# Altium footprint library Inductor_SMD.PcbLib: 587 footprints (part 32 of 37)
Each footprint in its own frame and in the unit in brackets; x right, y up, seen from the top. Pads: shape width x height; smd on the part's side, far side on the other; paste and mask are expansions set on the pad; w line width, h text height; cw(c..) or ccw(c..) is an arc to the next point about the centre after c.
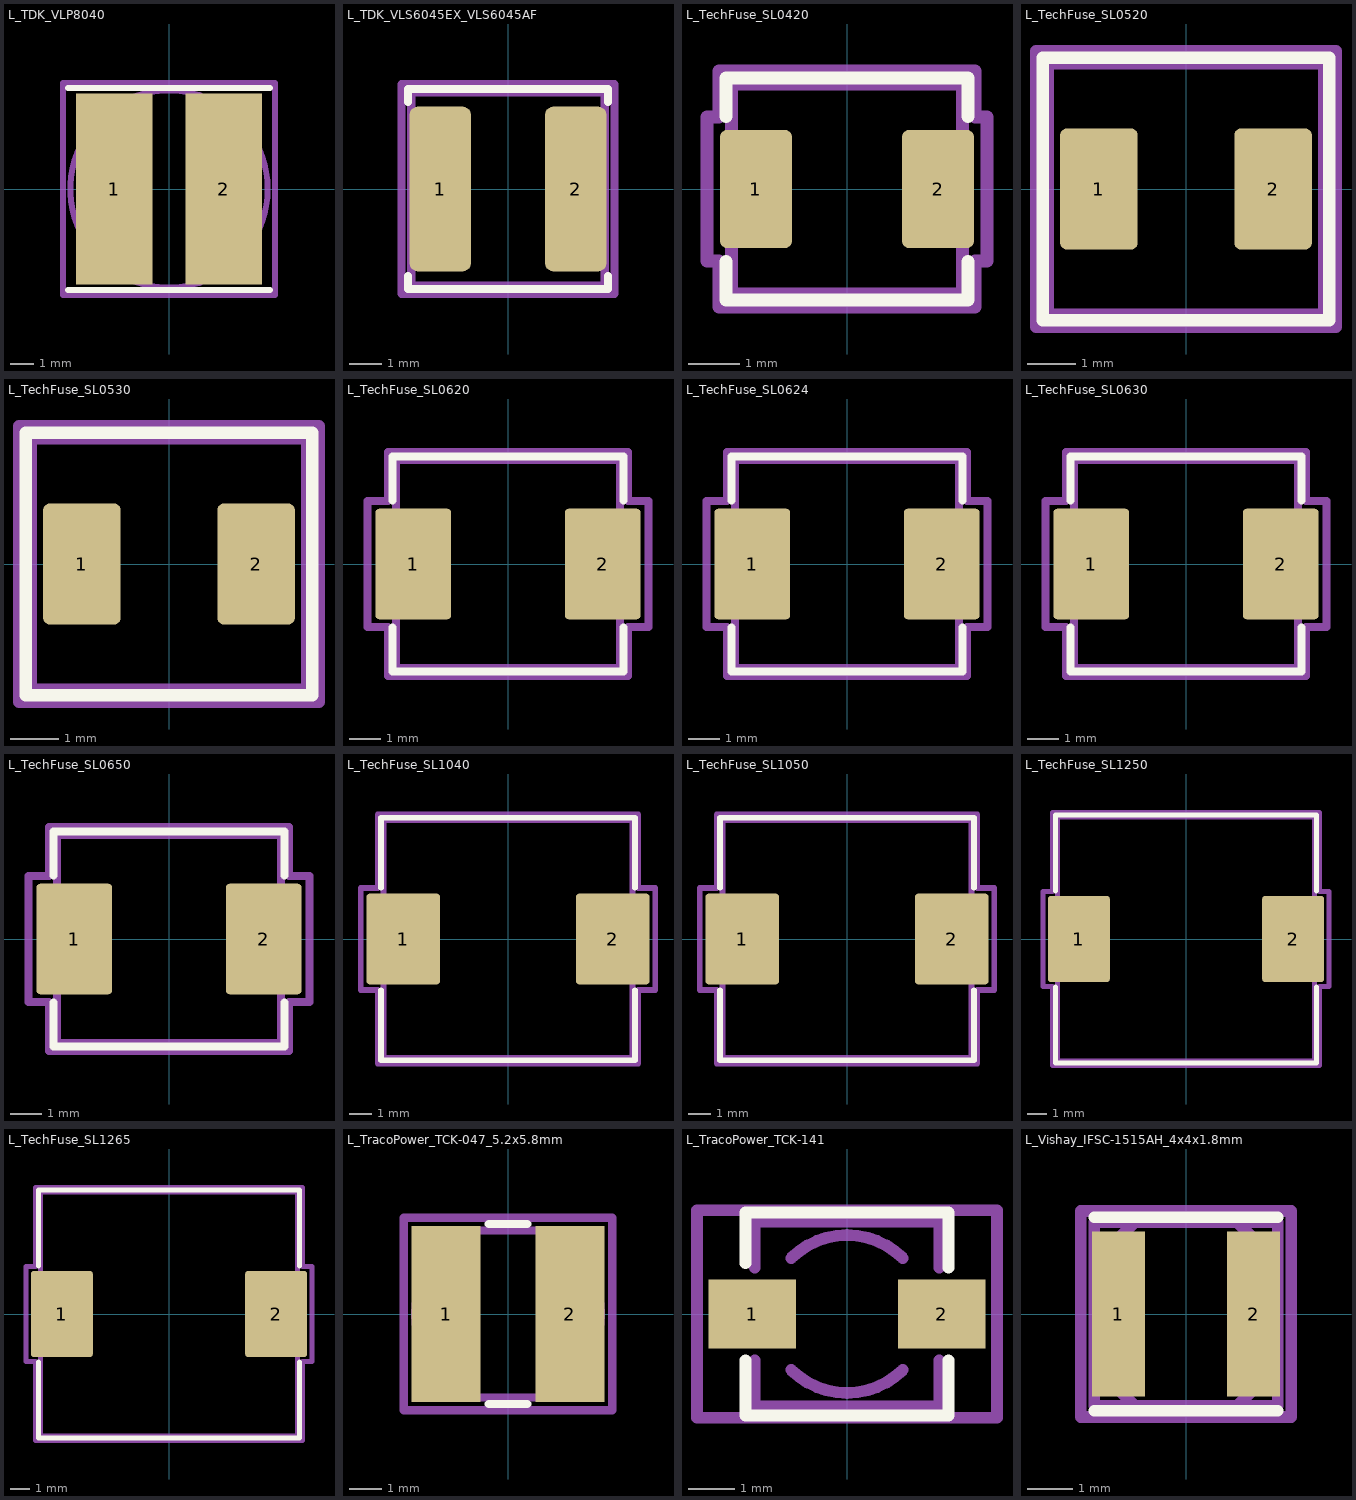
[diagram p31: the footprints below, top view; thin cyan lines are the x and y axes]

## L_TDK_VLP8040 [mm] "L_TDK_VLP8040"
pads (2):
  rect 3.3x8.2 smd: 1(-2.35,0) 2(2.35,0)
F.SilkS:
  lines w0.254: -4.35,-4.35 4.35,-4.35 ; -4.35,4.35 4.35,4.35
Top Assembly:
  circle w0.254: c0,0 r4.243
  lines w0.254: -3.5,-2.4 -3.5,-3.5 -2.4,-3.5 ; -3.5,2.4 -3.5,3.5 -2.4,3.5 ; 2.4,-3.5 3.5,-3.5 3.5,-2.4 ; 2.4,3.5 3.5,3.5 3.5,2.4
  text "'.Designator'" at -4.047,-0.84 h1
Top Courtyard:
  lines w0.254: -4.55,-4.55 4.55,-4.55 4.55,4.55 -4.55,4.55 -4.55,-4.55
Top Designator:
  text ".Designator" at -7.618,-0.508 h1.52

## L_TDK_VLS6045EX_VLS6045AF [mm] "L_TDK_VLS6045EX_VLS6045AF"
pads (2):
  rrect25% 1.9x5.1 smd: 1(-2.1,0) 2(2.1,0)
F.SilkS:
  lines w0.254: -3.1,-2.7 -3.1,-3.1 3.1,-3.1 3.1,-2.7 ; -3.1,2.7 -3.1,3.1 3.1,3.1 3.1,2.7
Top Assembly:
  lines w0.254: -3,-3 3,-3 3,3 -3,3 -3,-3
  text "'.Designator'" at -4.047,-0.84 h1
Top Courtyard:
  lines w0.254: -3.3,-3.25 3.3,-3.25 3.3,3.25 -3.3,3.25 -3.3,-3.25
Top Designator:
  text ".Designator" at -7.768,-0.508 h1.52

## L_TechFuse_SL0420 [mm] "L_TechFuse_SL0420"
pads (2):
  rrect18% 1.4x2.3 smd: 1(-1.775,0) 2(1.775,0)
F.SilkS:
  lines w0.254: -2.36,-1.41 -2.36,-2.16 2.36,-2.16 2.36,-1.41 ; -2.36,1.41 -2.36,2.16 2.36,2.16 2.36,1.41
Top Assembly:
  lines w0.254: -2.25,-2.05 -2.25,2.05 2.25,2.05 2.25,-2.05 -2.25,-2.05
  text "'.Designator'" at -4.047,-0.84 h1
Top Courtyard:
  lines w0.254: -2.73,-1.4 -2.73,1.4 -2.5,1.4 -2.5,2.3 2.5,2.3 2.5,1.4 2.73,1.4 2.73,-1.4 2.5,-1.4 2.5,-2.3 -2.5,-2.3 -2.5,-1.4 -2.73,-1.4
Top Designator:
  text ".Designator" at -7.768,-0.508 h1.52

## L_TechFuse_SL0520 [mm] "L_TechFuse_SL0520"
pads (2):
  rrect16% 1.6x2.5 smd: 1(-1.8,0) 2(1.8,0)
F.SilkS:
  lines w0.254: -2.96,-2.71 -2.96,2.71 2.96,2.71 2.96,-2.71 -2.96,-2.71
Top Assembly:
  lines w0.254: -2.85,-2.6 -2.85,2.6 2.85,2.6 2.85,-2.6 -2.85,-2.6
  text "'.Designator'" at -4.047,-0.84 h1
Top Courtyard:
  lines w0.254: -3.1,-2.85 -3.1,2.85 3.1,2.85 3.1,-2.85 -3.1,-2.85
Top Designator:
  text ".Designator" at -7.768,-0.508 h1.52

## L_TechFuse_SL0530 [mm] "L_TechFuse_SL0530"
pads (2):
  rrect16% 1.6x2.5 smd: 1(-1.8,0) 2(1.8,0)
F.SilkS:
  lines w0.254: -2.96,-2.71 2.96,-2.71 2.96,2.71 -2.96,2.71 -2.96,-2.71
Top Assembly:
  lines w0.254: -2.85,-2.6 2.85,-2.6 2.85,2.6 -2.85,2.6 -2.85,-2.6
  text "'.Designator'" at -4.047,-0.84 h1
Top Courtyard:
  lines w0.254: -3.1,-2.85 3.1,-2.85 3.1,2.85 -3.1,2.85 -3.1,-2.85
Top Designator:
  text ".Designator" at -7.768,-0.508 h1.52

## L_TechFuse_SL0620 [mm] "L_TechFuse_SL0620"
pads (2):
  rrect10% 2.4x3.5 smd: 1(-3,0) 2(3,0)
F.SilkS:
  lines w0.254: -3.66,-2.01 -3.66,-3.41 3.66,-3.41 3.66,-2.01 ; -3.66,2.01 -3.66,3.41 3.66,3.41 3.66,2.01
Top Assembly:
  lines w0.254: -3.55,-3.3 3.55,-3.3 3.55,3.3 -3.55,3.3 -3.55,-3.3
  text "'.Designator'" at -4.047,-0.84 h1
Top Courtyard:
  lines w0.254: -4.45,-2 -3.8,-2 -3.8,-3.55 3.8,-3.55 3.8,-2 4.45,-2 4.45,2 3.8,2 3.8,3.55 -3.8,3.55 -3.8,2 -4.45,2 -4.45,-2
Top Designator:
  text ".Designator" at -7.618,-0.508 h1.52

## L_TechFuse_SL0624 [mm] "L_TechFuse_SL0624"
pads (2):
  rrect10% 2.4x3.5 smd: 1(-3,0) 2(3,0)
F.SilkS:
  lines w0.254: -3.66,-2.01 -3.66,-3.41 3.66,-3.41 3.66,-2.01 ; -3.66,2.01 -3.66,3.41 3.66,3.41 3.66,2.01
Top Assembly:
  lines w0.254: -3.55,-3.3 -3.55,3.3 3.55,3.3 3.55,-3.3 -3.55,-3.3
  text "'.Designator'" at -4.047,-0.84 h1
Top Courtyard:
  lines w0.254: -4.45,-2 -4.45,2 -3.8,2 -3.8,3.55 3.8,3.55 3.8,2 4.45,2 4.45,-2 3.8,-2 3.8,-3.55 -3.8,-3.55 -3.8,-2 -4.45,-2
Top Designator:
  text ".Designator" at -7.618,-0.508 h1.52

## L_TechFuse_SL0630 [mm] "L_TechFuse_SL0630"
pads (2):
  rrect10% 2.4x3.5 smd: 1(-3,0) 2(3,0)
F.SilkS:
  lines w0.254: -3.66,-2.01 -3.66,-3.41 3.66,-3.41 3.66,-2.01 ; -3.66,2.01 -3.66,3.41 3.66,3.41 3.66,2.01
Top Assembly:
  lines w0.254: -3.55,-3.3 3.55,-3.3 3.55,3.3 -3.55,3.3 -3.55,-3.3
  text "'.Designator'" at -4.047,-0.84 h1
Top Courtyard:
  lines w0.254: -4.45,-2 -3.8,-2 -3.8,-3.55 3.8,-3.55 3.8,-2 4.45,-2 4.45,2 3.8,2 3.8,3.55 -3.8,3.55 -3.8,2 -4.45,2 -4.45,-2
Top Designator:
  text ".Designator" at -7.618,-0.508 h1.52

## L_TechFuse_SL0650 [mm] "L_TechFuse_SL0650"
pads (2):
  rrect10% 2.4x3.5 smd: 1(-3,0) 2(3,0)
F.SilkS:
  lines w0.254: -3.66,-2.01 -3.66,-3.41 3.66,-3.41 3.66,-2.01 ; -3.66,2.01 -3.66,3.41 3.66,3.41 3.66,2.01
Top Assembly:
  lines w0.254: -3.55,-3.3 -3.55,3.3 3.55,3.3 3.55,-3.3 -3.55,-3.3
  text "'.Designator'" at -4.047,-0.84 h1
Top Courtyard:
  lines w0.254: -4.45,-2 -4.45,2 -3.8,2 -3.8,3.55 3.8,3.55 3.8,2 4.45,2 4.45,-2 3.8,-2 3.8,-3.55 -3.8,-3.55 -3.8,-2 -4.45,-2
Top Designator:
  text ".Designator" at -7.618,-0.508 h1.52

## L_TechFuse_SL1040 [mm] "L_TechFuse_SL1040"
pads (2):
  rrect8% 3.25x4 smd: 1(-4.625,0) 2(4.625,0)
F.SilkS:
  lines w0.254: -5.61,-2.26 -5.61,-5.36 5.61,-5.36 5.61,-2.26 ; -5.61,2.26 -5.61,5.36 5.61,5.36 5.61,2.26
Top Assembly:
  lines w0.254: -5.5,-5.25 -5.5,5.25 5.5,5.25 5.5,-5.25 -5.5,-5.25
  text "'.Designator'" at -4.047,-0.84 h1
Top Courtyard:
  lines w0.254: -6.5,-2.25 -6.5,2.25 -5.75,2.25 -5.75,5.5 5.75,5.5 5.75,2.25 6.5,2.25 6.5,-2.25 5.75,-2.25 5.75,-5.5 -5.75,-5.5 -5.75,-2.25 -6.5,-2.25
Top Designator:
  text ".Designator" at -7.618,-0.508 h1.52

## L_TechFuse_SL1050 [mm] "L_TechFuse_SL1050"
pads (2):
  rrect8% 3.25x4 smd: 1(-4.625,0) 2(4.625,0)
F.SilkS:
  lines w0.254: -5.61,-2.26 -5.61,-5.36 5.61,-5.36 5.61,-2.26 ; -5.61,2.26 -5.61,5.36 5.61,5.36 5.61,2.26
Top Assembly:
  lines w0.254: -5.5,-5.25 -5.5,5.25 5.5,5.25 5.5,-5.25 -5.5,-5.25
  text "'.Designator'" at -4.047,-0.84 h1
Top Courtyard:
  lines w0.254: -6.5,-2.25 -6.5,2.25 -5.75,2.25 -5.75,5.5 5.75,5.5 5.75,2.25 6.5,2.25 6.5,-2.25 5.75,-2.25 5.75,-5.5 -5.75,-5.5 -5.75,-2.25 -6.5,-2.25
Top Designator:
  text ".Designator" at -7.618,-0.508 h1.52

## L_TechFuse_SL1250 [mm] "L_TechFuse_SL1250"
pads (2):
  rrect8% 3.25x4.5 smd: 1(-5.625,0) 2(5.625,0)
F.SilkS:
  lines w0.254: -6.86,-2.51 -6.86,-6.51 6.86,-6.51 6.86,-2.51 ; -6.86,2.51 -6.86,6.51 6.86,6.51 6.86,2.51
Top Assembly:
  lines w0.254: -6.75,-6.4 -6.75,6.4 6.75,6.4 6.75,-6.4 -6.75,-6.4
  text "'.Designator'" at -4.047,-0.84 h1
Top Courtyard:
  lines w0.254: -7.5,-2.5 -7.5,2.5 -7,2.5 -7,6.65 7,6.65 7,2.5 7.5,2.5 7.5,-2.5 7,-2.5 7,-6.65 -7,-6.65 -7,-2.5 -7.5,-2.5
Top Designator:
  text ".Designator" at -7.618,-0.508 h1.52

## L_TechFuse_SL1265 [mm] "L_TechFuse_SL1265"
pads (2):
  rrect8% 3.25x4.5 smd: 1(-5.625,0) 2(5.625,0)
F.SilkS:
  lines w0.254: -6.86,-2.51 -6.86,-6.51 6.86,-6.51 6.86,-2.51 ; -6.86,2.51 -6.86,6.51 6.86,6.51 6.86,2.51
Top Assembly:
  lines w0.254: -6.75,-6.4 -6.75,6.4 6.75,6.4 6.75,-6.4 -6.75,-6.4
  text "'.Designator'" at -4.047,-0.84 h1
Top Courtyard:
  lines w0.254: -7.5,-2.5 -7.5,2.5 -7,2.5 -7,6.65 7,6.65 7,2.5 7.5,2.5 7.5,-2.5 7,-2.5 7,-6.65 -7,-6.65 -7,-2.5 -7.5,-2.5
Top Designator:
  text ".Designator" at -7.618,-0.508 h1.52

## L_TracoPower_TCK-047_5.2x5.8mm [mm] "L_TracoPower_TCK-047_5.2x5.8mm"
pads (2):
  rect 2.15x5.5 smd: 1(-1.925,0) 2(1.925,0)
F.SilkS:
  lines w0.254: -0.6,-2.8 0.6,-2.8 ; -0.6,2.8 0.6,2.8
Top Assembly:
  lines w0.254: -1.285,-2.6 cw(c0,0) -1.285,2.6 1.285,2.6 cw(c0,0) 1.285,-2.6 -1.285,-2.6
  text "'.Designator'" at -4.047,-0.84 h1
Top Courtyard:
  lines w0.254: -3.25,-3 -3.25,3 3.25,3 3.25,-3 -3.25,-3
Top Designator:
  text ".Designator" at -7.768,-0.508 h1.52

## L_TracoPower_TCK-141 [mm] "L_TracoPower_TCK-141"
pads (2):
  rect 1.9x1.5 smd: 1(-2.05,0) 2(2.05,0)
F.SilkS:
  lines w0.254: -2.2,-1 -2.2,-2.2 2.2,-2.2 2.2,-1 ; -2.2,1.1 -2.2,2.2 2.2,2.2 2.2,1
Top Assembly:
  lines w0.254: -2,-2 2,-2 2,-1 ; -2,-1.95 -2,-1 ; -2,1 -2,2 2,2 ; -1.21,-1.21 ccw(c0,0) 1.21,-1.21 ; -1.21,1.21 cw(c0,0) 1.21,1.21 ; 2,1 2,1.95
  text "'.Designator'" at -1.634,-0.351 h0.4
Top Courtyard:
  lines w0.254: -3.25,-2.25 -3.25,2.25 3.25,2.25 3.25,-2.25 -3.25,-2.25
Top Designator:
  text ".Designator" at -7.618,-0.508 h1.52

## L_Vishay_IFSC-1515AH_4x4x1.8mm [mm] "L_Vishay_IFSC-1515AH_4x4x1.8mm"
pads (2):
  rect 1.15x3.6 smd: 1(-1.475,0) 2(1.475,0)
F.SilkS:
  lines w0.254: -2,-2.11 2,-2.11 ; -2,2.11 2,2.11
Top Assembly:
  lines w0.254: -2,-1.115 -1.115,-2 ; -2,1.115 -1.115,2 ; 1.115,-2 2,-1.115 ; 1.115,2 2,1.115 ; -2,-2 -2,2 2,2 2,-2 -2,-2
  text "'.Designator'" at -3.237,-0.672 h0.8
Top Courtyard:
  lines w0.254: -2.3,-2.25 -2.3,2.25 2.3,2.25 2.3,-2.25 -2.3,-2.25
Top Designator:
  text ".Designator" at -7.738,-0.508 h1.52